# EAGLE library part MT3620MINI (library azuresphere)
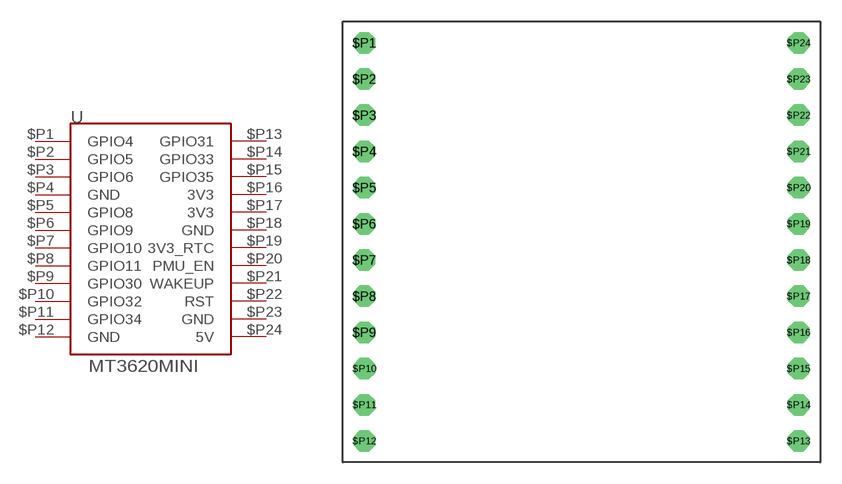
[diagram p0: symbol with the pads of MT3620MINI; footprint MT3620MINI]

Designator prefix -

## MT3620MINI  [MT3620MINI]
$P1  GPIO4
$P2  GPIO5
$P3  GPIO6
$P4  GND
$P5  GPIO8
$P6  GPIO9
$P7  GPIO10
$P8  GPIO11
$P9  GPIO30
$P10  GPIO32
$P11  GPIO34
$P12  GND
$P13  GPIO31
$P14  GPIO33
$P15  GPIO35
$P16  3V3  pwr
$P17  3V3  pwr
$P18  GND
$P19  3V3_RTC  pwr
$P20  PMU_EN
$P21  WAKEUP
$P22  RST
$P23  GND
$P24  5V

## Footprint MT3620MINI (pad centres in mm)
drill 1 octagon: $P1 -16.51,13.97; $P2 -16.51,11.43; $P3 -16.51,8.89; $P4 -16.51,6.35; $P5 -16.51,3.81; $P6 -16.51,1.27; $P7 -16.51,-1.27; $P8 -16.51,-3.81; $P9 -16.51,-6.35; $P10 -16.51,-8.89; $P11 -16.51,-11.43; $P12 -16.51,-13.97; $P13 13.97,-13.97; $P14 13.97,-11.43; $P15 13.97,-8.89; $P16 13.97,-6.35; $P17 13.97,-3.81; $P18 13.97,-1.27; $P19 13.97,1.27; $P20 13.97,3.81; $P21 13.97,6.35; $P22 13.97,8.89; $P23 13.97,11.43; $P24 13.97,13.97